# Altium schematic symbol library LMR16006.SchLib: 1 symbol
Pins are listed as number, name and electrical type; pins without a type are passive.

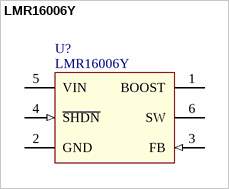
[diagram p0: symbol LMR16006Y]

## LMR16006Y
designator U?
LMR16006Y-Q1 SIMPLE SWITCHER® Buck Regulators With High-Efficiency ECO Mode; value: LMR16006Y
footprint SOT23-6
pins: 1 BOOST, 2 GND (power), 3 FB (in), 4 ~{SHDN} (in), 5 VIN (power), 6 SW